# Altium footprint library 专用A.PcbLib: 94 footprints (part 1 of 6)
Each footprint in its own frame and in the unit in brackets; x right, y up, seen from the top. Pads: shape width x height; smd on the part's side, far side on the other; paste and mask are expansions set on the pad; w line width, h text height; cw(c..) or ccw(c..) is an arc to the next point about the centre after c.
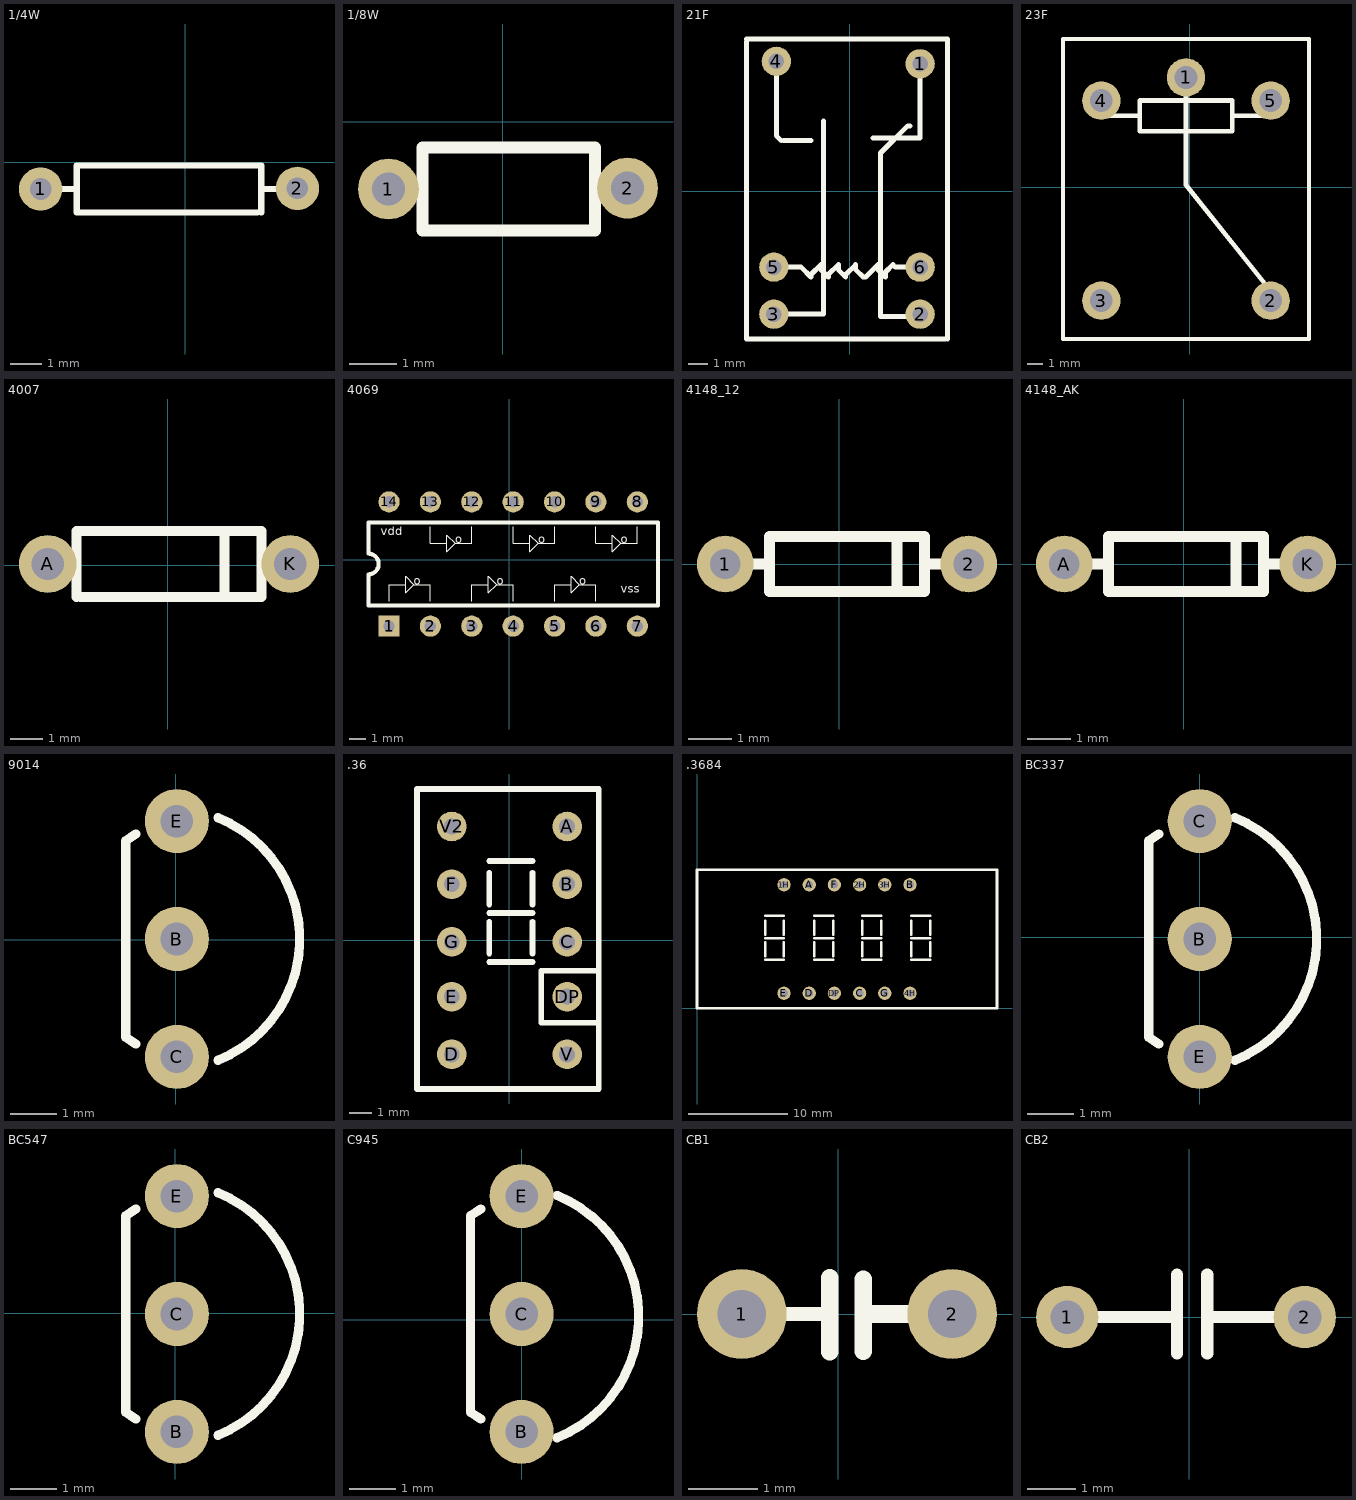
[diagram p0: the footprints below, top view; thin cyan lines are the x and y axes]

## 1/4W [mm]
pads (2):
  round 1.4 hole 0.7: 1(-4.68,-0.86) 2(3.62,-0.84)
TopOverlay:
  lines w0.203: -4.022,-0.86 -3.514,-0.86 ; 2.328,-1.622 -3.514,-1.622 -3.514,-0.098 2.455,-0.098 2.455,-1.622 ; 2.455,-0.86 2.963,-0.86

## 1/8W [mm]
pads (2):
  round 1.3 hole 0.7: 1(-2.44,-1.44) 2(2.66,-1.42)
TopOverlay:
  lines w0.254: -1.718,-2.329 -1.718,-0.551 1.965,-0.551 1.965,-2.329 -1.718,-2.329

## 21F [mm]
pads (6):
  round 1.5 hole 0.8: 1(3.61,6.526) 2(3.61,-6.301) 3(-3.883,-6.301) 4(-3.756,6.653) 5(-3.883,-3.888) 6(3.61,-3.888)
TopOverlay:
  lines w0.254: -5.28,7.669 -5.28,-7.317 -5.28,-7.571 -5.026,-7.571 ; -5.28,7.796 5.007,7.796 5.007,-7.571 ; -5.153,-7.571 4.88,-7.571 ; -3.883,-6.301 -1.343,-6.301 -1.343,3.605 ; -3.883,-3.888 -2.486,-3.888 -1.978,-4.396 -1.978,-4.269 -1.47,-3.761 -1.47,-4.015 -1.089,-4.396 -1.089,-4.269 -0.581,-3.761 -0.581,-4.015 -0.2,-4.396 -0.2,-4.269 0.308,-3.761 0.308,-4.015 0.689,-4.396 0.816,-4.396 1.451,-3.761 1.451,-4.015 1.832,-4.396 1.832,-4.142 2.213,-3.761 2.34,-3.888 3.356,-3.888 ; -3.756,6.653 -3.756,2.843 -3.502,2.589 ; -3.375,2.589 -1.978,2.589 ; 1.197,2.716 3.61,2.716 3.61,6.526 ; 3.102,3.351 2.975,3.351 1.578,1.954 1.578,1.192 1.578,-6.428 3.737,-6.428

## 23F [mil]
pads (5):
  round 100 hole 59.06: 1(-10,285) 2(210,-295) 3(-230,-295) 4(-230,225) 5(210,225)
TopOverlay:
  lines w10: -330,-395 -330,385 310,385 310,-395 -330,-395
  lines w12: -250,185 -130,185 ; -230,185 -230,225 ; -10,285 -10,5 230,-295 ; 110,185 230,185 ; 210,185 210,225 ; -130,145 -130,225 110,225 110,145 -130,145

## 4007 [mil]
pads (2):
  round 70 hole 39.37: A(-145.75,1.42) K(149.25,1.42)
TopOverlay:
  lines w12: -110.75,-38.58 -110.75,41.42 114.25,41.42 114.25,-38.58 -105.75,-38.58 ; 69.25,-38.58 69.25,41.42

## 4069 [mm]
pads (14):
  rect 1.3x1.3 hole 0.7: 1(-7.366,-4.064)
  round 1.3 hole 0.7: 2(-4.826,-4.064) 3(-2.286,-4.064) 4(0.254,-4.064) 5(2.794,-4.064) 6(5.334,-4.064) 7(7.874,-4.064) 8(7.874,3.556) 9(5.334,3.556) 10(2.794,3.556) 11(0.254,3.556) 12(-2.286,3.556) 13(-4.826,3.556) 14(-7.366,3.556)
TopOverlay:
  lines w0.051: -7.366,-2.54 -7.366,-1.524 -6.858,-1.524 -6.35,-1.524 ; -4.826,-2.54 -4.826,-1.524 -5.842,-1.524 ; -4.826,2.032 -4.826,1.016 -4.318,1.016 -3.81,1.016 ; -2.286,-2.54 -2.286,-1.524 -1.778,-1.524 -1.27,-1.524 ; -2.286,2.032 -2.286,1.016 -3.302,1.016 ; 0.254,-2.54 0.254,-1.524 -0.762,-1.524 ; 0.254,2.032 0.254,1.016 0.762,1.016 1.27,1.016 ; 2.794,-2.54 2.794,-1.524 3.302,-1.524 3.81,-1.524 ; 2.794,2.032 2.794,1.016 1.778,1.016 ; 5.334,-2.54 5.334,-1.524 4.318,-1.524 ; 5.334,2.032 5.334,1.016 5.842,1.016 6.35,1.016 ; 7.874,2.032 7.874,1.016 6.858,1.016 ; -5.842,-1.524 -6.35,-2.032 -6.35,-1.016 -5.842,-1.524 ; -3.302,1.016 -3.81,0.508 -3.81,1.524 -3.302,1.016 ; -0.762,-1.524 -1.27,-2.032 -1.27,-1.016 -0.762,-1.524 ; 1.778,1.016 1.27,0.508 1.27,1.524 1.778,1.016 ; 4.318,-1.524 3.81,-2.032 3.81,-1.016 4.318,-1.524 ; 6.858,1.016 6.35,0.508 6.35,1.524 6.858,1.016
  lines w0.254: -8.636,-2.794 9.144,-2.794 9.144,2.286 -8.636,2.286 -8.636,0.381 cw(c-8.636,-0.254) -8.636,-0.889 -8.636,-2.794
  text "vss" at 6.858,-2.032 h0.51
  text "vdd" at -7.874,1.524 h0.51
  text "o" at -3.302,1.016 h0.51
  text "o" at 1.778,1.016 h0.51
  text "o" at 6.858,1.016 h0.51
  text "o" at 4.318,-1.524 h0.51
  text "o" at -0.762,-1.524 h0.51
  text "o" at -5.842,-1.524 h0.51

## 4148_12 [mm]
pads (2):
  round 1.3 hole 0.7: 1(-2.619,0) 2(2.969,0)
TopOverlay:
  lines w0.254: -1.984,0 -1.603,0 ; 1.318,0.508 1.318,-0.635 1.318,0.635 ; 1.953,0 2.461,0 ; -1.603,-0.635 -1.603,0.635 1.953,0.635 1.953,-0.635 -1.603,-0.635

## 4148_AK [mm]
pads (2):
  round 1.3 hole 0.7: A(-2.746,0) K(2.842,0)
TopOverlay:
  lines w0.254: -2.111,0 -1.73,0 ; 1.191,0.508 1.191,-0.635 1.191,0.635 ; 1.826,0 2.334,0 ; -1.73,-0.635 -1.73,0.635 1.826,0.635 1.826,-0.635 -1.73,-0.635

## 9014 [mm]
pads (3):
  round 1.38 hole 0.7: B(0.025,0.013) C(0.025,-2.527) E(0.025,2.553)
TopOverlay:
  lines w0.2: -0.856,-2.25 -1.075,-2.104 -1.075,2.129 -0.856,2.275 ; 0.911,-2.597 ccw(c-0.144,0.013) 0.911,2.623

## .36 [mm]
pads (10):
  round 1.3 hole 0.7: A(2.54,5.016) B(2.54,2.476) C(2.54,-0.064) D(-2.54,-5.016) DP(2.54,-2.476) E(-2.54,-2.476) F(-2.54,2.476) G(-2.54,-0.064) V(2.54,-5.016) V2(-2.54,5.016)
TopOverlay:
  lines w0.254: -0.889,-0.953 1.016,-0.953 ; -0.889,-0.572 -0.889,0.826 ; -0.889,1.206 1.016,1.206 ; -0.889,1.587 -0.889,2.984 ; -0.889,3.492 1.016,3.492 ; 1.016,-0.572 1.016,0.826 ; 1.016,1.587 1.016,2.984 ; 3.937,-3.619 1.397,-3.619 1.397,-1.333 3.937,-1.333 ; -4.064,-6.54 3.937,-6.54 3.937,6.667 -4.064,6.667 -4.064,-6.54

## .3684 [mil]
pads (12):
  round 52.76 hole 30: 1H(345,490) 2H(645,490) 3H(745,490) 4H(845,60) A(445,490) B(845,490) C(645,60) D(445,60) DP(545,60) E(345,60) F(545,490) G(745,60)
TopOverlay:
  lines w10: 270,192.5 345,192.5 ; 270,207.5 270,262.5 ; 270,277.5 345,277.5 ; 270,292.5 270,347.5 ; 270,367.5 345,367.5 ; 345,207.5 345,262.5 ; 345,292.5 345,347.5 ; 465,192.5 540,192.5 ; 465,207.5 465,262.5 ; 465,277.5 540,277.5 ; 465,292.5 465,347.5 ; 465,367.5 540,367.5 ; 540,207.5 540,262.5 ; 540,292.5 540,347.5 ; 655,192.5 730,192.5 ; 655,207.5 655,262.5 ; 655,277.5 730,277.5 ; 655,292.5 655,347.5 ; 655,367.5 730,367.5 ; 730,207.5 730,262.5 ; 730,292.5 730,347.5 ; 850,192.5 925,192.5 ; 850,207.5 850,262.5 ; 850,277.5 925,277.5 ; 850,292.5 850,347.5 ; 850,367.5 925,367.5 ; 925,207.5 925,262.5 ; 925,292.5 925,347.5 ; 1185,0 0,0 0,550 1185,550 ; 1190,0 1190,550

## BC337 [mm]
pads (3):
  round 1.38 hole 0.7: B(0,-0.04) C(0,2.5) E(0,-2.58)
TopOverlay:
  lines w0.2: -0.882,-2.303 -1.101,-2.157 -1.101,2.077 -0.882,2.223 ; 0.758,-2.65 ccw(c-0.296,-0.04) 0.758,2.57

## BC547 [mm]
pads (3):
  round 1.38 hole 0.7: B(0.04,-2.56) C(0.04,-0.02) E(0.04,2.52)
TopOverlay:
  lines w0.2: -0.842,-2.283 -1.061,-2.137 -1.061,2.097 -0.842,2.243 ; 0.925,-2.63 ccw(c-0.129,-0.02) 0.925,2.59

## C945 [mm]
pads (3):
  round 1.38 hole 0.7: B(0,-2.413) C(0,0.127) E(0,2.667)
TopOverlay:
  lines w0.2: -0.882,-2.136 -1.101,-1.99 -1.101,2.244 -0.882,2.39 ; 0.762,-2.54 ccw(c-0.293,0.07) 0.762,2.68

## CB1 [mm]
pads (2):
  round 1.3 hole 0.7: 1(-1.397,0) 2(1.651,0)
TopOverlay:
  lines w0.203: -1.397,0 -0.254,0
  lines w0.254: -0.126,0.522 -0.125,-0.546 ; 0.36,-0.54 0.36,0.504 ; 0.381,0 1.651,0

## CB2 [mm]
pads (2):
  round 1.3 hole 0.7: 1(-2.54,0) 2(2.413,0)
TopOverlay:
  lines w0.254: -1.905,0 -1.27,0 -0.254,0 ; -0.254,-0.762 -0.254,0.889 ; 0.381,-0.762 0.381,0.889 ; 0.508,0 2.413,0